# EAGLE library part ISO1050DW (library logic-supply)
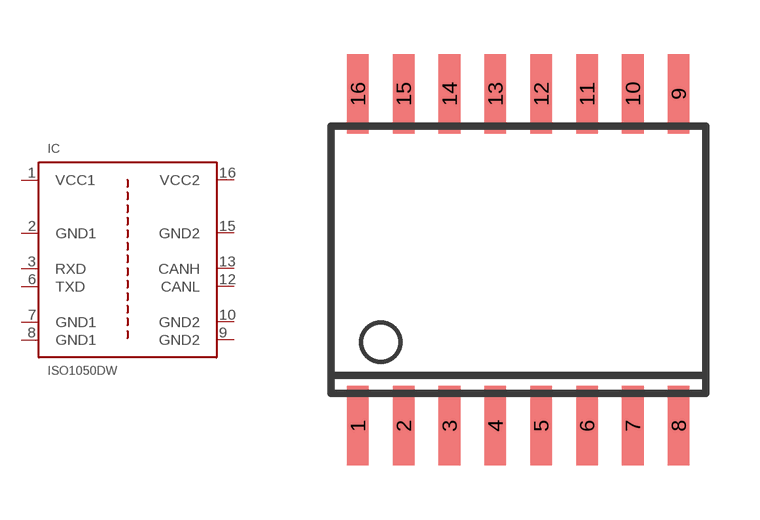
[diagram p30: symbol with the pads of SO16W; footprint SO16W]

Designator prefix IC

## ISO1050DW  [SO16W]
1  VCC1  pwr
2  GND1  pwr
3  RXD  out
6  TXD  in
7  GND1  pwr
8  GND1  pwr
9  GND2  pwr
10  GND2  pwr
12  CANL
13  CANH
15  GND2  pwr
16  VCC2  pwr

## Footprint SO16W (pad centres in mm)
Derived from analog-devices.lbr SO-16W
smd 0.6 x 2.2: 1 -4.445,-4.6; 2 -3.175,-4.6; 3 -1.905,-4.6; 4 -0.635,-4.6; 5 0.635,-4.6; 6 1.905,-4.6; 7 3.175,-4.6; 8 4.445,-4.6; 9 4.445,4.6; 10 3.175,4.6; 11 1.905,4.6; 12 0.635,4.6; 13 -0.635,4.6; 14 -1.905,4.6; 15 -3.175,4.6; 16 -4.445,4.6